# Altium integrated library ON Semi Transient Voltage Suppressors (TVS).IntLib: 730 symbols (part 10 of 17)
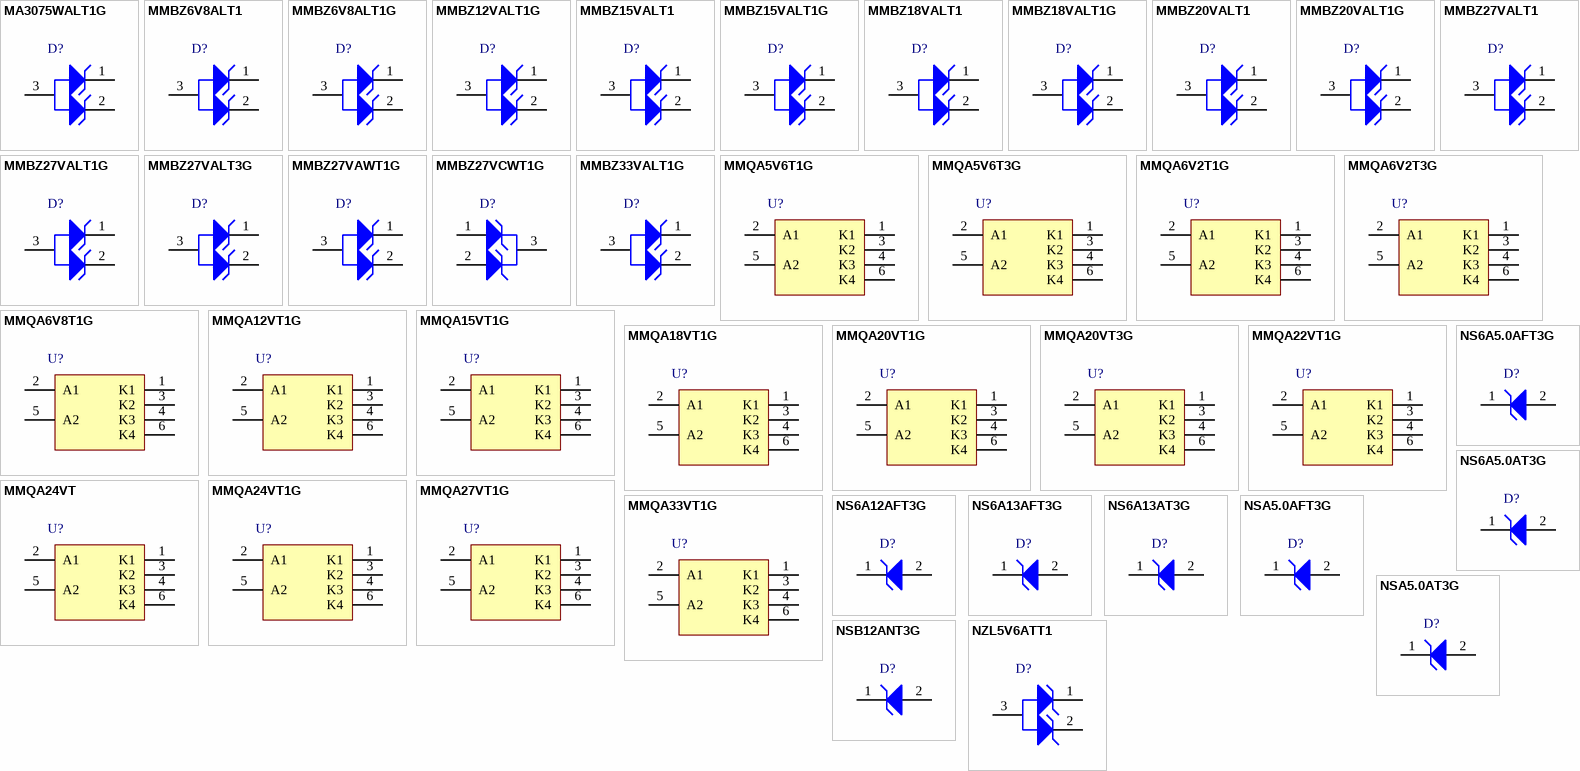
[diagram p27: symbols MA3075WALT1G to NZL5V6ATT1]

## NZL5V6ATT1
designator D?
Dual Common Anode Zener for ESD Protection, 3-Pin SC-75, Tape and Reel; Manufacturer: On Semiconductor; PartNumber: NZL5V6ATT1; Direction: Unidirectional; IR Max (uA): 1; V(BR) Typ (V): 5.6; DatasheetVersion: Rev. 3; PackageVersion: Rev. F, 07/2005; PackageReference: SC-75-3-463-01; PackageDescription: 3-Pin Small Outline Transistor, Body 1.6 x 0.8 mm, Pitch 0.5 mm; Supplier 1: Digi-Key; Supplier Part Number 1: NZL5V6ATT1OS-ND; Packing: Tape and Reel; Mounting Technology: Surface Mount; ComponentLink1Description: Manufacturer URL; ComponentLink1URL: http://www.onsemi.com/; ComponentLink2Description: Datasheet; ComponentLink2URL: http://www.onsemi.com/pub_link/Collateral/NZL5V6ATT1-D.PDF; ComponentLink3Description: Package Specification; ComponentLink3URL: http://www.onsemi.com/pub_link/Collateral/463-01.PDF
footprint ONSC-SC-75-3-463-01_V (SOT23, 3-Leads, Body 1.6x0.8mm, Pitch 0.5mm)
pins: 1 K1, 2 K2, 3 A

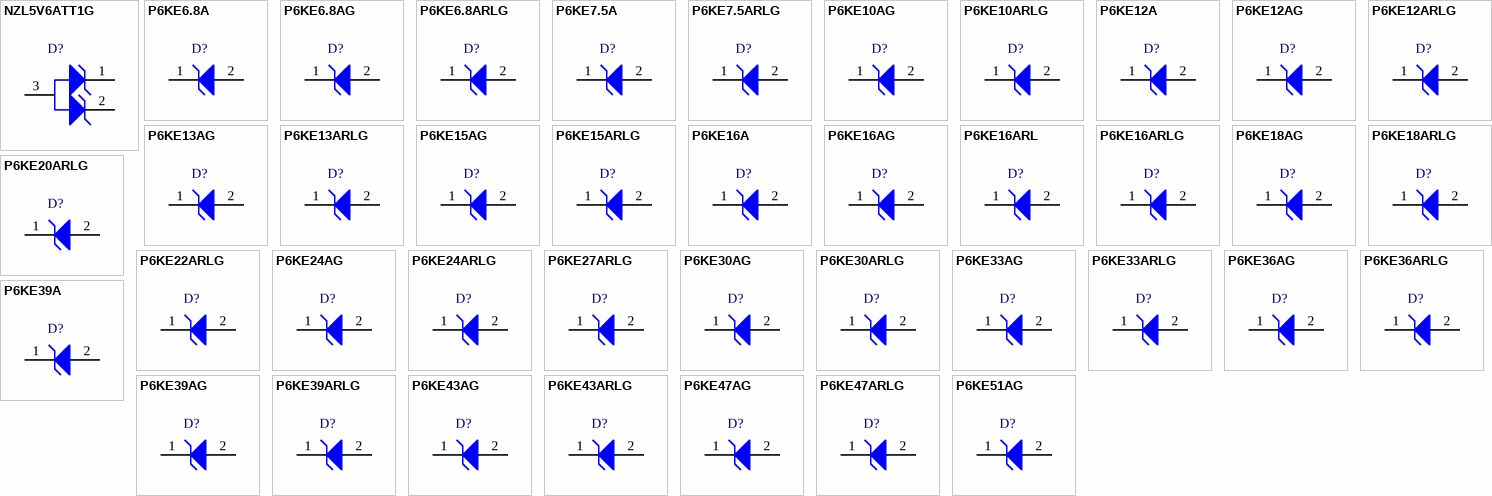
[diagram p10: symbols NZL5V6ATT1G to P6KE51AG]

## NZL5V6ATT1G
designator D?
Dual Common Anode Zener for ESD Protection, 3-Pin SC-75, Pb-Free, Tape and Reel; Manufacturer: On Semiconductor; PartNumber: NZL5V6ATT1G; Direction: Unidirectional; IR Max (uA): 1; V(BR) Typ (V): 5.6; DatasheetVersion: Rev. 3; PackageVersion: Rev. F, 07/2005; PackageReference: SC-75-3-463-01; PackageDescription: 3-Pin Small Outline Transistor, Body 1.6 x 0.8 mm, Pitch 0.5 mm; Supplier 1: Digi-Key; Supplier Part Number 1: NZL5V6ATT1GOSTR-ND; Supplier 2: Digi-Key; Supplier Part Number 2: NZL5V6ATT1GOSCT-ND; Supplier 3: Mouser; Supplier Part Number 3: 863-NZL5V6ATT1G; Packing: Tape and Reel; RoHS: Pb-Free; Mounting Technology: Surface Mount; ComponentLink1Description: Manufacturer URL; ComponentLink1URL: http://www.onsemi.com/; ComponentLink2Description: Datasheet; ComponentLink2URL: http://www.onsemi.com/pub_link/Collateral/NZL5V6ATT1-D.PDF; ComponentLink3Description: Package Specification; ComponentLink3URL: http://www.onsemi.com/pub_link/Collateral/463-01.PDF
footprint ONSC-SC-75-3-463-01_V (SOT23, 3-Leads, Body 1.6x0.8mm, Pitch 0.5mm)
pins: 1 K1, 2 K2, 3 A

## P6KE6.8A
designator D?
600 W Peak Power Transient Voltage Suppressor, 2-Pin Surmetic(TM) 40, Bulk Box; Manufacturer: On Semiconductor; PartNumber: P6KE6.8A; Direction: Unidirectional; IR Max (uA): 1000; PPK Max (W): 600; V(BR) Typ (V): 6.8; DatasheetVersion: Rev. 10; PackageVersion: Rev. O, 09/2005; PackageReference: SURMETIC40-2-017AA-01; PackageDescription: 2-Pin, Axial Lead, Diameter 3.49 mm; Supplier 1: Digi-Key; Supplier Part Number 1: P6KE6.8AOS-ND; Packing: Bulk Box; Mounting Technology: Through Hole; ComponentLink1Description: Manufacturer URL; ComponentLink1URL: http://www.onsemi.com/; ComponentLink2Description: Datasheet; ComponentLink2URL: http://www.onsemi.com/pub_link/Collateral/P6KE6.8A-D.PDF; ComponentLink3Description: Package Specification; ComponentLink3URL: http://www.onsemi.cn/pub_link/Collateral/017AA.PDF
footprint ONSC-SURMETIC40-2-017AA-01 (AXIAL, 2-Leads, Diameter 3.49mm)
pins: 1 K, 2 A

## P6KE6.8AG
designator D?
600 W Peak Power Transient Voltage Suppressor, 2-Pin Surmetic(TM) 40, Pb-Free, Bulk Box; Manufacturer: On Semiconductor; PartNumber: P6KE6.8AG; Direction: Unidirectional; IR Max (uA): 1000; PPK Max (W): 600; V(BR) Typ (V): 6.8; DatasheetVersion: Rev. 10; PackageVersion: Rev. O, 09/2005; PackageReference: SURMETIC40-2-017AA-01; PackageDescription: 2-Pin, Axial Lead, Diameter 3.49 mm; Supplier 1: Digi-Key; Supplier Part Number 1: P6KE6.8AGOS-ND; Supplier 2: Farnell; Supplier Part Number 2: 1147733; Supplier 3: Newark; Supplier Part Number 3: 42K2536; Supplier 4: Mouser; Supplier Part Number 4: 863-P6KE6.8AG; Packing: Bulk Box; RoHS: Pb-Free; Mounting Technology: Through Hole; ComponentLink1Description: Manufacturer URL; ComponentLink1URL: http://www.onsemi.com/; ComponentLink2Description: Datasheet; ComponentLink2URL: http://www.onsemi.com/pub_link/Collateral/P6KE6.8A-D.PDF; ComponentLink3Description: Package Specification; ComponentLink3URL: http://www.onsemi.cn/pub_link/Collateral/017AA.PDF
footprint ONSC-SURMETIC40-2-017AA-01 (AXIAL, 2-Leads, Diameter 3.49mm)
pins: 1 K, 2 A

## P6KE6.8ARLG
designator D?
600 W Peak Power Transient Voltage Suppressor, 2-Pin Surmetic(TM) 40, Pb-Free, Tape and Reel; Manufacturer: On Semiconductor; PartNumber: P6KE6.8ARLG; Direction: Unidirectional; IR Max (uA): 1000; PPK Max (W): 600; V(BR) Typ (V): 6.8; DatasheetVersion: Rev. 10; PackageVersion: Rev. O, 09/2005; PackageReference: SURMETIC40-2-017AA-01; PackageDescription: 2-Pin, Axial Lead, Diameter 3.49 mm; Supplier 1: Digi-Key; Supplier Part Number 1: P6KE6.8ARLGOSTR-ND; Supplier 2: Digi-Key; Supplier Part Number 2: P6KE6.8ARLGOSCT-ND; Supplier 3: Farnell; Supplier Part Number 3: 1887112; Supplier 4: Newark; Supplier Part Number 4: 09R9689; Supplier 5: Mouser; Supplier Part Number 5: 863-P6KE6.8ARLG; Packing: Tape and Reel; RoHS: Pb-Free; Mounting Technology: Through Hole; ComponentLink1Description: Manufacturer URL; ComponentLink1URL: http://www.onsemi.com/; ComponentLink2Description: Datasheet; ComponentLink2URL: http://www.onsemi.com/pub_link/Collateral/P6KE6.8A-D.PDF; ComponentLink3Description: Package Specification; ComponentLink3URL: http://www.onsemi.cn/pub_link/Collateral/017AA.PDF
footprint ONSC-SURMETIC40-2-017AA-01 (AXIAL, 2-Leads, Diameter 3.49mm)
pins: 1 K, 2 A

## P6KE7.5A
designator D?
600 W Peak Power Transient Voltage Suppressor, 2-Pin Surmetic(TM) 40, Bulk Box; Manufacturer: On Semiconductor; PartNumber: P6KE7.5A; Direction: Unidirectional; IR Max (uA): 500; PPK Max (W): 600; V(BR) Typ (V): 7.51; DatasheetVersion: Rev. 10; PackageVersion: Rev. O, 09/2005; PackageReference: SURMETIC40-2-017AA-01; PackageDescription: 2-Pin, Axial Lead, Diameter 3.49 mm; Packing: Bulk Box; Mounting Technology: Through Hole; ComponentLink1Description: Manufacturer URL; ComponentLink1URL: http://www.onsemi.com/; ComponentLink2Description: Datasheet; ComponentLink2URL: http://www.onsemi.com/pub_link/Collateral/P6KE6.8A-D.PDF; ComponentLink3Description: Package Specification; ComponentLink3URL: http://www.onsemi.cn/pub_link/Collateral/017AA.PDF
footprint ONSC-SURMETIC40-2-017AA-01 (AXIAL, 2-Leads, Diameter 3.49mm)
pins: 1 K, 2 A

## P6KE7.5ARLG
designator D?
600 W Peak Power Transient Voltage Suppressor, 2-Pin Surmetic(TM) 40, Pb-Free, Tape and Reel; Manufacturer: On Semiconductor; PartNumber: P6KE7.5ARLG; Direction: Unidirectional; IR Max (uA): 500; PPK Max (W): 600; V(BR) Typ (V): 7.51; DatasheetVersion: Rev. 10; PackageVersion: Rev. O, 09/2005; PackageReference: SURMETIC40-2-017AA-01; PackageDescription: 2-Pin, Axial Lead, Diameter 3.49 mm; Supplier 1: Digi-Key; Supplier Part Number 1: P6KE7.5ARLG-ND; Supplier 2: Mouser; Supplier Part Number 2: 863-P6KE7.5ARLG; Packing: Tape and Reel; RoHS: Pb-Free; Mounting Technology: Through Hole; ComponentLink1Description: Manufacturer URL; ComponentLink1URL: http://www.onsemi.com/; ComponentLink2Description: Datasheet; ComponentLink2URL: http://www.onsemi.com/pub_link/Collateral/P6KE6.8A-D.PDF; ComponentLink3Description: Package Specification; ComponentLink3URL: http://www.onsemi.cn/pub_link/Collateral/017AA.PDF
footprint ONSC-SURMETIC40-2-017AA-01 (AXIAL, 2-Leads, Diameter 3.49mm)
pins: 1 K, 2 A

## P6KE10AG
designator D?
600 W Peak Power Transient Voltage Suppressor, 2-Pin Surmetic(TM) 40, Pb-Free, Bulk Box; Manufacturer: On Semiconductor; PartNumber: P6KE10AG; Direction: Unidirectional; IR Max (uA): 10; PPK Max (W): 600; DatasheetVersion: Rev. 10; PackageVersion: Rev. O, 09/2005; PackageReference: SURMETIC40-2-017AA-01; PackageDescription: 2-Pin, Axial Lead, Diameter 3.49 mm; Supplier 1: Digi-Key; Supplier Part Number 1: P6KE10AGOS-ND; Supplier 2: Newark; Supplier Part Number 2: 42K2506; Supplier 3: Mouser; Supplier Part Number 3: 863-P6KE10AG; Packing: Bulk Box; RoHS: Pb-Free; V(BR) Typ (V): 10; Mounting Technology: Through Hole; ComponentLink1Description: Manufacturer URL; ComponentLink1URL: http://www.onsemi.com/; ComponentLink2Description: Datasheet; ComponentLink2URL: http://www.onsemi.com/pub_link/Collateral/P6KE6.8A-D.PDF; ComponentLink3Description: Package Specification; ComponentLink3URL: http://www.onsemi.cn/pub_link/Collateral/017AA.PDF
footprint ONSC-SURMETIC40-2-017AA-01 (AXIAL, 2-Leads, Diameter 3.49mm)
pins: 1 K, 2 A

## P6KE10ARLG
designator D?
600 W Peak Power Transient Voltage Suppressor, 2-Pin Surmetic(TM) 40, Pb-Free, Tape and Reel; Manufacturer: On Semiconductor; PartNumber: P6KE10ARLG; Direction: Unidirectional; IR Max (uA): 10; PPK Max (W): 600; DatasheetVersion: Rev. 10; PackageVersion: Rev. O, 09/2005; PackageReference: SURMETIC40-2-017AA-01; PackageDescription: 2-Pin, Axial Lead, Diameter 3.49 mm; Supplier 1: Digi-Key; Supplier Part Number 1: P6KE10ARLG-ND; Supplier 2: Newark; Supplier Part Number 2: 42K2507; Supplier 3: Mouser; Supplier Part Number 3: 863-P6KE10ARLG; Packing: Tape and Reel; RoHS: Pb-Free; V(BR) Typ (V): 10; Mounting Technology: Through Hole; ComponentLink1Description: Manufacturer URL; ComponentLink1URL: http://www.onsemi.com/; ComponentLink2Description: Datasheet; ComponentLink2URL: http://www.onsemi.com/pub_link/Collateral/P6KE6.8A-D.PDF; ComponentLink3Description: Package Specification; ComponentLink3URL: http://www.onsemi.cn/pub_link/Collateral/017AA.PDF
footprint ONSC-SURMETIC40-2-017AA-01 (AXIAL, 2-Leads, Diameter 3.49mm)
pins: 1 K, 2 A

## P6KE12A
designator D?
600 W Peak Power Transient Voltage Suppressor, 2-Pin Surmetic(TM) 40, Bulk Box; Manufacturer: On Semiconductor; PartNumber: P6KE12A; Direction: Unidirectional; IR Max (uA): 5; PPK Max (W): 600; V(BR) Typ (V): 12; DatasheetVersion: Rev. 10; PackageVersion: Rev. O, 09/2005; PackageReference: SURMETIC40-2-017AA-01; PackageDescription: 2-Pin, Axial Lead, Diameter 3.49 mm; Packing: Bulk Box; Mounting Technology: Through Hole; ComponentLink1Description: Manufacturer URL; ComponentLink1URL: http://www.onsemi.com/; ComponentLink2Description: Datasheet; ComponentLink2URL: http://www.onsemi.com/pub_link/Collateral/P6KE6.8A-D.PDF; ComponentLink3Description: Package Specification; ComponentLink3URL: http://www.onsemi.cn/pub_link/Collateral/017AA.PDF
footprint ONSC-SURMETIC40-2-017AA-01 (AXIAL, 2-Leads, Diameter 3.49mm)
pins: 1 K, 2 A

## P6KE12AG
designator D?
600 W Peak Power Transient Voltage Suppressor, 2-Pin Surmetic(TM) 40, Pb-Free, Bulk Box; Manufacturer: On Semiconductor; PartNumber: P6KE12AG; Direction: Unidirectional; IR Max (uA): 5; PPK Max (W): 600; V(BR) Typ (V): 12; DatasheetVersion: Rev. 10; PackageVersion: Rev. O, 09/2005; PackageReference: SURMETIC40-2-017AA-01; PackageDescription: 2-Pin, Axial Lead, Diameter 3.49 mm; Supplier 1: Digi-Key; Supplier Part Number 1: P6KE12AGOS-ND; Supplier 2: Newark; Supplier Part Number 2: 42K2512; Supplier 3: Mouser; Supplier Part Number 3: 863-P6KE12AG; Packing: Bulk Box; RoHS: Pb-Free; Mounting Technology: Through Hole; ComponentLink1Description: Manufacturer URL; ComponentLink1URL: http://www.onsemi.com/; ComponentLink2Description: Datasheet; ComponentLink2URL: http://www.onsemi.com/pub_link/Collateral/P6KE6.8A-D.PDF; ComponentLink3Description: Package Specification; ComponentLink3URL: http://www.onsemi.cn/pub_link/Collateral/017AA.PDF
footprint ONSC-SURMETIC40-2-017AA-01 (AXIAL, 2-Leads, Diameter 3.49mm)
pins: 1 K, 2 A

## P6KE12ARLG
designator D?
600 W Peak Power Transient Voltage Suppressor, 2-Pin Surmetic(TM) 40, Pb-Free, Tape and Reel; Manufacturer: On Semiconductor; PartNumber: P6KE12ARLG; Direction: Unidirectional; IR Max (uA): 5; PPK Max (W): 600; V(BR) Typ (V): 12; DatasheetVersion: Rev. 10; PackageVersion: Rev. O, 09/2005; PackageReference: SURMETIC40-2-017AA-01; PackageDescription: 2-Pin, Axial Lead, Diameter 3.49 mm; Supplier 1: Digi-Key; Supplier Part Number 1: P6KE12ARLG-ND; Supplier 2: Mouser; Supplier Part Number 2: 863-P6KE12ARLG; Packing: Tape and Reel; RoHS: Pb-Free; Mounting Technology: Through Hole; ComponentLink1Description: Manufacturer URL; ComponentLink1URL: http://www.onsemi.com/; ComponentLink2Description: Datasheet; ComponentLink2URL: http://www.onsemi.com/pub_link/Collateral/P6KE6.8A-D.PDF; ComponentLink3Description: Package Specification; ComponentLink3URL: http://www.onsemi.cn/pub_link/Collateral/017AA.PDF
footprint ONSC-SURMETIC40-2-017AA-01 (AXIAL, 2-Leads, Diameter 3.49mm)
pins: 1 K, 2 A

## P6KE13AG
designator D?
600 W Peak Power Transient Voltage Suppressor, 2-Pin Surmetic(TM) 40, Pb-Free, Bulk Box; Manufacturer: On Semiconductor; PartNumber: P6KE13AG; Direction: Unidirectional; IR Max (uA): 5; PPK Max (W): 600; V(BR) Typ (V): 13.05; DatasheetVersion: Rev. 10; PackageVersion: Rev. O, 09/2005; PackageReference: SURMETIC40-2-017AA-01; PackageDescription: 2-Pin, Axial Lead, Diameter 3.49 mm; Supplier 1: Digi-Key; Supplier Part Number 1: P6KE13AG-ND; Supplier 2: Mouser; Supplier Part Number 2: 863-P6KE13AG; Packing: Bulk Box; RoHS: Pb-Free; Mounting Technology: Through Hole; ComponentLink1Description: Manufacturer URL; ComponentLink1URL: http://www.onsemi.com/; ComponentLink2Description: Datasheet; ComponentLink2URL: http://www.onsemi.com/pub_link/Collateral/P6KE6.8A-D.PDF; ComponentLink3Description: Package Specification; ComponentLink3URL: http://www.onsemi.cn/pub_link/Collateral/017AA.PDF
footprint ONSC-SURMETIC40-2-017AA-01 (AXIAL, 2-Leads, Diameter 3.49mm)
pins: 1 K, 2 A

## P6KE13ARLG
designator D?
600 W Peak Power Transient Voltage Suppressor, 2-Pin Surmetic(TM) 40, Pb-Free, Tape and Reel; Manufacturer: On Semiconductor; PartNumber: P6KE13ARLG; Direction: Unidirectional; IR Max (uA): 5; PPK Max (W): 600; V(BR) Typ (V): 13.05; DatasheetVersion: Rev. 10; PackageVersion: Rev. O, 09/2005; PackageReference: SURMETIC40-2-017AA-01; PackageDescription: 2-Pin, Axial Lead, Diameter 3.49 mm; Supplier 1: Digi-Key; Supplier Part Number 1: P6KE13ARLG-ND; Supplier 2: Mouser; Supplier Part Number 2: 863-P6KE13ARLG; Packing: Tape and Reel; RoHS: Pb-Free; Mounting Technology: Through Hole; ComponentLink1Description: Manufacturer URL; ComponentLink1URL: http://www.onsemi.com/; ComponentLink2Description: Datasheet; ComponentLink2URL: http://www.onsemi.com/pub_link/Collateral/P6KE6.8A-D.PDF; ComponentLink3Description: Package Specification; ComponentLink3URL: http://www.onsemi.cn/pub_link/Collateral/017AA.PDF
footprint ONSC-SURMETIC40-2-017AA-01 (AXIAL, 2-Leads, Diameter 3.49mm)
pins: 1 K, 2 A

## P6KE15AG
designator D?
600 W Peak Power Transient Voltage Suppressor, 2-Pin Surmetic(TM) 40, Pb-Free, Bulk Box; Manufacturer: On Semiconductor; PartNumber: P6KE15AG; Direction: Unidirectional; IR Max (uA): 5; PPK Max (W): 600; V(BR) Typ (V): 15.05; DatasheetVersion: Rev. 10; PackageVersion: Rev. O, 09/2005; PackageReference: SURMETIC40-2-017AA-01; PackageDescription: 2-Pin, Axial Lead, Diameter 3.49 mm; Supplier 1: Digi-Key; Supplier Part Number 1: P6KE15AGOS-ND; Supplier 2: Newark; Supplier Part Number 2: 42K2515; Supplier 3: Mouser; Supplier Part Number 3: 863-P6KE15AG; Packing: Bulk Box; RoHS: Pb-Free; Mounting Technology: Through Hole; ComponentLink1Description: Manufacturer URL; ComponentLink1URL: http://www.onsemi.com/; ComponentLink2Description: Datasheet; ComponentLink2URL: http://www.onsemi.com/pub_link/Collateral/P6KE6.8A-D.PDF; ComponentLink3Description: Package Specification; ComponentLink3URL: http://www.onsemi.cn/pub_link/Collateral/017AA.PDF
footprint ONSC-SURMETIC40-2-017AA-01 (AXIAL, 2-Leads, Diameter 3.49mm)
pins: 1 K, 2 A

## P6KE15ARLG
designator D?
600 W Peak Power Transient Voltage Suppressor, 2-Pin Surmetic(TM) 40, Pb-Free, Tape and Reel; Manufacturer: On Semiconductor; PartNumber: P6KE15ARLG; Direction: Unidirectional; IR Max (uA): 5; PPK Max (W): 600; V(BR) Typ (V): 15.05; DatasheetVersion: Rev. 10; PackageVersion: Rev. O, 09/2005; PackageReference: SURMETIC40-2-017AA-01; PackageDescription: 2-Pin, Axial Lead, Diameter 3.49 mm; Supplier 1: Digi-Key; Supplier Part Number 1: P6KE15ARLG-ND; Supplier 2: Mouser; Supplier Part Number 2: 863-P6KE15ARLG; Packing: Tape and Reel; RoHS: Pb-Free; Mounting Technology: Through Hole; ComponentLink1Description: Manufacturer URL; ComponentLink1URL: http://www.onsemi.com/; ComponentLink2Description: Datasheet; ComponentLink2URL: http://www.onsemi.com/pub_link/Collateral/P6KE6.8A-D.PDF; ComponentLink3Description: Package Specification; ComponentLink3URL: http://www.onsemi.cn/pub_link/Collateral/017AA.PDF
footprint ONSC-SURMETIC40-2-017AA-01 (AXIAL, 2-Leads, Diameter 3.49mm)
pins: 1 K, 2 A

## P6KE16A
designator D?
600 W Peak Power Transient Voltage Suppressor, 2-Pin Surmetic(TM) 40, Bulk Box; Manufacturer: On Semiconductor; PartNumber: P6KE16A; Direction: Unidirectional; IR Max (uA): 5; PPK Max (W): 600; V(BR) Typ (V): 16; DatasheetVersion: Rev. 10; PackageVersion: Rev. O, 09/2005; PackageReference: SURMETIC40-2-017AA-01; PackageDescription: 2-Pin, Axial Lead, Diameter 3.49 mm; Supplier 1: Digi-Key; Supplier Part Number 1: P6KE16AOS-ND; Packing: Bulk Box; Mounting Technology: Through Hole; ComponentLink1Description: Manufacturer URL; ComponentLink1URL: http://www.onsemi.com/; ComponentLink2Description: Datasheet; ComponentLink2URL: http://www.onsemi.com/pub_link/Collateral/P6KE6.8A-D.PDF; ComponentLink3Description: Package Specification; ComponentLink3URL: http://www.onsemi.cn/pub_link/Collateral/017AA.PDF
footprint ONSC-SURMETIC40-2-017AA-01 (AXIAL, 2-Leads, Diameter 3.49mm)
pins: 1 K, 2 A

## P6KE16AG
designator D?
600 W Peak Power Transient Voltage Suppressor, 2-Pin Surmetic(TM) 40, Pb-Free, Bulk Box; Manufacturer: On Semiconductor; PartNumber: P6KE16AG; Direction: Unidirectional; IR Max (uA): 5; PPK Max (W): 600; V(BR) Typ (V): 16; DatasheetVersion: Rev. 10; PackageVersion: Rev. O, 09/2005; PackageReference: SURMETIC40-2-017AA-01; PackageDescription: 2-Pin, Axial Lead, Diameter 3.49 mm; Supplier 1: Digi-Key; Supplier Part Number 1: P6KE16AG-ND; Supplier 2: Mouser; Supplier Part Number 2: 863-P6KE16AG; Packing: Bulk Box; RoHS: Pb-Free; Mounting Technology: Through Hole; ComponentLink1Description: Manufacturer URL; ComponentLink1URL: http://www.onsemi.com/; ComponentLink2Description: Datasheet; ComponentLink2URL: http://www.onsemi.com/pub_link/Collateral/P6KE6.8A-D.PDF; ComponentLink3Description: Package Specification; ComponentLink3URL: http://www.onsemi.cn/pub_link/Collateral/017AA.PDF
footprint ONSC-SURMETIC40-2-017AA-01 (AXIAL, 2-Leads, Diameter 3.49mm)
pins: 1 K, 2 A

## P6KE16ARL
designator D?
600 W Peak Power Transient Voltage Suppressor, 2-Pin Surmetic(TM) 40, Tape and Reel; Manufacturer: On Semiconductor; PartNumber: P6KE16ARL; Direction: Unidirectional; IR Max (uA): 5; PPK Max (W): 600; V(BR) Typ (V): 16; DatasheetVersion: Rev. 10; PackageVersion: Rev. O, 09/2005; PackageReference: SURMETIC40-2-017AA-01; PackageDescription: 2-Pin, Axial Lead, Diameter 3.49 mm; Supplier 1: Mouser; Supplier Part Number 1: 863-P6KE16ARL; Packing: Tape and Reel; Mounting Technology: Through Hole; ComponentLink1Description: Manufacturer URL; ComponentLink1URL: http://www.onsemi.com/; ComponentLink2Description: Datasheet; ComponentLink2URL: http://www.onsemi.com/pub_link/Collateral/P6KE6.8A-D.PDF; ComponentLink3Description: Package Specification; ComponentLink3URL: http://www.onsemi.cn/pub_link/Collateral/017AA.PDF
footprint ONSC-SURMETIC40-2-017AA-01 (AXIAL, 2-Leads, Diameter 3.49mm)
pins: 1 K, 2 A

## P6KE16ARLG
designator D?
600 W Peak Power Transient Voltage Suppressor, 2-Pin Surmetic(TM) 40, Pb-Free, Tape and Reel; Manufacturer: On Semiconductor; PartNumber: P6KE16ARLG; Direction: Unidirectional; IR Max (uA): 5; PPK Max (W): 600; V(BR) Typ (V): 16; DatasheetVersion: Rev. 10; PackageVersion: Rev. O, 09/2005; PackageReference: SURMETIC40-2-017AA-01; PackageDescription: 2-Pin, Axial Lead, Diameter 3.49 mm; Supplier 1: Digi-Key; Supplier Part Number 1: P6KE16ARLGOSTR-ND; Supplier 2: Digi-Key; Supplier Part Number 2: P6KE16ARLGOSCT-ND; Supplier 3: Newark; Supplier Part Number 3: 61K1495; Supplier 4: Mouser; Supplier Part Number 4: 863-P6KE16ARLG; Packing: Tape and Reel; RoHS: Pb-Free; Mounting Technology: Through Hole; ComponentLink1Description: Manufacturer URL; ComponentLink1URL: http://www.onsemi.com/; ComponentLink2Description: Datasheet; ComponentLink2URL: http://www.onsemi.com/pub_link/Collateral/P6KE6.8A-D.PDF; ComponentLink3Description: Package Specification; ComponentLink3URL: http://www.onsemi.cn/pub_link/Collateral/017AA.PDF
footprint ONSC-SURMETIC40-2-017AA-01 (AXIAL, 2-Leads, Diameter 3.49mm)
pins: 1 K, 2 A

## P6KE18AG
designator D?
600 W Peak Power Transient Voltage Suppressor, 2-Pin Surmetic(TM) 40, Pb-Free, Bulk Box; Manufacturer: On Semiconductor; PartNumber: P6KE18AG; Direction: Unidirectional; IR Max (uA): 5; PPK Max (W): 600; V(BR) Typ (V): 18; DatasheetVersion: Rev. 10; PackageVersion: Rev. O, 09/2005; PackageReference: SURMETIC40-2-017AA-01; PackageDescription: 2-Pin, Axial Lead, Diameter 3.49 mm; Supplier 1: Digi-Key; Supplier Part Number 1: P6KE18AGOS-ND; Supplier 2: Newark; Supplier Part Number 2: 42K2519; Supplier 3: Mouser; Supplier Part Number 3: 863-P6KE18AG; Packing: Bulk Box; RoHS: Pb-Free; Mounting Technology: Through Hole; ComponentLink1Description: Manufacturer URL; ComponentLink1URL: http://www.onsemi.com/; ComponentLink2Description: Datasheet; ComponentLink2URL: http://www.onsemi.com/pub_link/Collateral/P6KE6.8A-D.PDF; ComponentLink3Description: Package Specification; ComponentLink3URL: http://www.onsemi.cn/pub_link/Collateral/017AA.PDF
footprint ONSC-SURMETIC40-2-017AA-01 (AXIAL, 2-Leads, Diameter 3.49mm)
pins: 1 K, 2 A

## P6KE18ARLG
designator D?
600 W Peak Power Transient Voltage Suppressor, 2-Pin Surmetic(TM) 40, Pb-Free, Tape and Reel; Manufacturer: On Semiconductor; PartNumber: P6KE18ARLG; Direction: Unidirectional; IR Max (uA): 5; PPK Max (W): 600; V(BR) Typ (V): 18; DatasheetVersion: Rev. 10; PackageVersion: Rev. O, 09/2005; PackageReference: SURMETIC40-2-017AA-01; PackageDescription: 2-Pin, Axial Lead, Diameter 3.49 mm; Supplier 1: Digi-Key; Supplier Part Number 1: P6KE18ARLGOSTR-ND; Supplier 2: Digi-Key; Supplier Part Number 2: P6KE18ARLGOSCT-ND; Supplier 3: Farnell; Supplier Part Number 3: 1861225; Supplier 4: Newark; Supplier Part Number 4: 09R9682; Supplier 5: Mouser; Supplier Part Number 5: 863-P6KE18ARLG; Packing: Tape and Reel; RoHS: Pb-Free; Mounting Technology: Through Hole; ComponentLink1Description: Manufacturer URL; ComponentLink1URL: http://www.onsemi.com/; ComponentLink2Description: Datasheet; ComponentLink2URL: http://www.onsemi.com/pub_link/Collateral/P6KE6.8A-D.PDF; ComponentLink3Description: Package Specification; ComponentLink3URL: http://www.onsemi.cn/pub_link/Collateral/017AA.PDF
footprint ONSC-SURMETIC40-2-017AA-01 (AXIAL, 2-Leads, Diameter 3.49mm)
pins: 1 K, 2 A

## P6KE20ARLG
designator D?
600 W Peak Power Transient Voltage Suppressor, 2-Pin Surmetic(TM) 40, Pb-Free, Tape and Reel; Manufacturer: On Semiconductor; PartNumber: P6KE20ARLG; Direction: Unidirectional; IR Max (uA): 5; PPK Max (W): 600; V(BR) Typ (V): 20; DatasheetVersion: Rev. 10; PackageVersion: Rev. O, 09/2005; PackageReference: SURMETIC40-2-017AA-01; PackageDescription: 2-Pin, Axial Lead, Diameter 3.49 mm; Supplier 1: Digi-Key; Supplier Part Number 1: P6KE20ARLG-ND; Supplier 2: Newark; Supplier Part Number 2: 61K1497; Supplier 3: Mouser; Supplier Part Number 3: 863-P6KE20ARLG; Packing: Tape and Reel; RoHS: Pb-Free; Mounting Technology: Through Hole; ComponentLink1Description: Manufacturer URL; ComponentLink1URL: http://www.onsemi.com/; ComponentLink2Description: Datasheet; ComponentLink2URL: http://www.onsemi.com/pub_link/Collateral/P6KE6.8A-D.PDF; ComponentLink3Description: Package Specification; ComponentLink3URL: http://www.onsemi.cn/pub_link/Collateral/017AA.PDF
footprint ONSC-SURMETIC40-2-017AA-01 (AXIAL, 2-Leads, Diameter 3.49mm)
pins: 1 K, 2 A

## P6KE22ARLG
designator D?
600 W Peak Power Transient Voltage Suppressor, 2-Pin Surmetic(TM) 40, Pb-Free, Tape and Reel; Manufacturer: On Semiconductor; PartNumber: P6KE22ARLG; Direction: Unidirectional; IR Max (uA): 5; PPK Max (W): 600; V(BR) Typ (V): 22; DatasheetVersion: Rev. 10; PackageVersion: Rev. O, 09/2005; PackageReference: SURMETIC40-2-017AA-01; PackageDescription: 2-Pin, Axial Lead, Diameter 3.49 mm; Supplier 1: Digi-Key; Supplier Part Number 1: P6KE22ARLG-ND; Supplier 2: Mouser; Supplier Part Number 2: 863-P6KE22ARLG; Packing: Tape and Reel; RoHS: Pb-Free; Mounting Technology: Through Hole; ComponentLink1Description: Manufacturer URL; ComponentLink1URL: http://www.onsemi.com/; ComponentLink2Description: Datasheet; ComponentLink2URL: http://www.onsemi.com/pub_link/Collateral/P6KE6.8A-D.PDF; ComponentLink3Description: Package Specification; ComponentLink3URL: http://www.onsemi.cn/pub_link/Collateral/017AA.PDF
footprint ONSC-SURMETIC40-2-017AA-01 (AXIAL, 2-Leads, Diameter 3.49mm)
pins: 1 K, 2 A

## P6KE24AG
designator D?
600 W Peak Power Transient Voltage Suppressor, 2-Pin Surmetic(TM) 40, Pb-Free, Bulk Box; Manufacturer: On Semiconductor; PartNumber: P6KE24AG; Direction: Unidirectional; IR Max (uA): 5; PPK Max (W): 600; V(BR) Typ (V): 24; DatasheetVersion: Rev. 10; PackageVersion: Rev. O, 09/2005; PackageReference: SURMETIC40-2-017AA-01; PackageDescription: 2-Pin, Axial Lead, Diameter 3.49 mm; Supplier 1: Digi-Key; Supplier Part Number 1: P6KE24AGOS-ND; Supplier 2: Farnell; Supplier Part Number 2: 1147727; Supplier 3: Newark; Supplier Part Number 3: 42K2526; Supplier 4: Mouser; Supplier Part Number 4: 863-P6KE24AG; Packing: Bulk Box; RoHS: Pb-Free; Mounting Technology: Through Hole; ComponentLink1Description: Manufacturer URL; ComponentLink1URL: http://www.onsemi.com/; ComponentLink2Description: Datasheet; ComponentLink2URL: http://www.onsemi.com/pub_link/Collateral/P6KE6.8A-D.PDF; ComponentLink3Description: Package Specification; ComponentLink3URL: http://www.onsemi.cn/pub_link/Collateral/017AA.PDF
footprint ONSC-SURMETIC40-2-017AA-01 (AXIAL, 2-Leads, Diameter 3.49mm)
pins: 1 K, 2 A

## P6KE24ARLG
designator D?
600 W Peak Power Transient Voltage Suppressor, 2-Pin Surmetic(TM) 40, Pb-Free, Tape and Reel; Manufacturer: On Semiconductor; PartNumber: P6KE24ARLG; Direction: Unidirectional; IR Max (uA): 5; PPK Max (W): 600; V(BR) Typ (V): 24; DatasheetVersion: Rev. 10; PackageVersion: Rev. O, 09/2005; PackageReference: SURMETIC40-2-017AA-01; PackageDescription: 2-Pin, Axial Lead, Diameter 3.49 mm; Supplier 1: Digi-Key; Supplier Part Number 1: P6KE24ARLG-ND; Supplier 2: Mouser; Supplier Part Number 2: 863-P6KE24ARLG; Packing: Tape and Reel; RoHS: Pb-Free; Mounting Technology: Through Hole; ComponentLink1Description: Manufacturer URL; ComponentLink1URL: http://www.onsemi.com/; ComponentLink2Description: Datasheet; ComponentLink2URL: http://www.onsemi.com/pub_link/Collateral/P6KE6.8A-D.PDF; ComponentLink3Description: Package Specification; ComponentLink3URL: http://www.onsemi.cn/pub_link/Collateral/017AA.PDF
footprint ONSC-SURMETIC40-2-017AA-01 (AXIAL, 2-Leads, Diameter 3.49mm)
pins: 1 K, 2 A

## P6KE27ARLG
designator D?
600 W Peak Power Transient Voltage Suppressor, 2-Pin Surmetic(TM) 40, Pb-Free, Tape and Reel; Manufacturer: On Semiconductor; PartNumber: P6KE27ARLG; Direction: Unidirectional; IR Max (uA): 5; PPK Max (W): 600; V(BR) Typ (V): 27.05; DatasheetVersion: Rev. 10; PackageVersion: Rev. O, 09/2005; PackageReference: SURMETIC40-2-017AA-01; PackageDescription: 2-Pin, Axial Lead, Diameter 3.49 mm; Supplier 1: Digi-Key; Supplier Part Number 1: P6KE27ARLG-ND; Supplier 2: Mouser; Supplier Part Number 2: 863-P6KE27ARLG; Packing: Tape and Reel; RoHS: Pb-Free; Mounting Technology: Through Hole; ComponentLink1Description: Manufacturer URL; ComponentLink1URL: http://www.onsemi.com/; ComponentLink2Description: Datasheet; ComponentLink2URL: http://www.onsemi.com/pub_link/Collateral/P6KE6.8A-D.PDF; ComponentLink3Description: Package Specification; ComponentLink3URL: http://www.onsemi.cn/pub_link/Collateral/017AA.PDF
footprint ONSC-SURMETIC40-2-017AA-01 (AXIAL, 2-Leads, Diameter 3.49mm)
pins: 1 K, 2 A

## P6KE30AG
designator D?
600 W Peak Power Transient Voltage Suppressor, 2-Pin Surmetic(TM) 40, Pb-Free, Bulk Box; Manufacturer: On Semiconductor; PartNumber: P6KE30AG; Direction: Unidirectional; IR Max (uA): 5; PPK Max (W): 600; V(BR) Typ (V): 30; DatasheetVersion: Rev. 10; PackageVersion: Rev. O, 09/2005; PackageReference: SURMETIC40-2-017AA-01; PackageDescription: 2-Pin, Axial Lead, Diameter 3.49 mm; Supplier 1: Digi-Key; Supplier Part Number 1: P6KE30AGOS-ND; Supplier 2: Newark; Supplier Part Number 2: 42K2528; Supplier 3: Mouser; Supplier Part Number 3: 863-P6KE30AG; Packing: Bulk Box; RoHS: Pb-Free; Mounting Technology: Through Hole; ComponentLink1Description: Manufacturer URL; ComponentLink1URL: http://www.onsemi.com/; ComponentLink2Description: Datasheet; ComponentLink2URL: http://www.onsemi.com/pub_link/Collateral/P6KE6.8A-D.PDF; ComponentLink3Description: Package Specification; ComponentLink3URL: http://www.onsemi.cn/pub_link/Collateral/017AA.PDF
footprint ONSC-SURMETIC40-2-017AA-01 (AXIAL, 2-Leads, Diameter 3.49mm)
pins: 1 K, 2 A

## P6KE30ARLG
designator D?
600 W Peak Power Transient Voltage Suppressor, 2-Pin Surmetic(TM) 40, Pb-Free, Tape and Reel; Manufacturer: On Semiconductor; PartNumber: P6KE30ARLG; Direction: Unidirectional; IR Max (uA): 5; PPK Max (W): 600; V(BR) Typ (V): 30; DatasheetVersion: Rev. 10; PackageVersion: Rev. O, 09/2005; PackageReference: SURMETIC40-2-017AA-01; PackageDescription: 2-Pin, Axial Lead, Diameter 3.49 mm; Supplier 1: Digi-Key; Supplier Part Number 1: P6KE30ARLGOSTR-ND; Supplier 2: Digi-Key; Supplier Part Number 2: P6KE30ARLGOSCT-ND; Supplier 3: Newark; Supplier Part Number 3: 61K1500; Supplier 4: Mouser; Supplier Part Number 4: 863-P6KE30ARLG; Packing: Tape and Reel; RoHS: Pb-Free; Mounting Technology: Through Hole; ComponentLink1Description: Manufacturer URL; ComponentLink1URL: http://www.onsemi.com/; ComponentLink2Description: Datasheet; ComponentLink2URL: http://www.onsemi.com/pub_link/Collateral/P6KE6.8A-D.PDF; ComponentLink3Description: Package Specification; ComponentLink3URL: http://www.onsemi.cn/pub_link/Collateral/017AA.PDF
footprint ONSC-SURMETIC40-2-017AA-01 (AXIAL, 2-Leads, Diameter 3.49mm)
pins: 1 K, 2 A

## P6KE33AG
designator D?
600 W Peak Power Transient Voltage Suppressor, 2-Pin Surmetic(TM) 40, Pb-Free, Bulk Box; Manufacturer: On Semiconductor; PartNumber: P6KE33AG; Direction: Unidirectional; IR Max (uA): 5; PPK Max (W): 600; V(BR) Typ (V): 33.05; DatasheetVersion: Rev. 10; PackageVersion: Rev. O, 09/2005; PackageReference: SURMETIC40-2-017AA-01; PackageDescription: 2-Pin, Axial Lead, Diameter 3.49 mm; Supplier 1: Digi-Key; Supplier Part Number 1: P6KE33AGOS-ND; Supplier 2: Farnell; Supplier Part Number 2: 1126275; Supplier 3: Newark; Supplier Part Number 3: 42K2529; Supplier 4: Mouser; Supplier Part Number 4: 863-P6KE33AG; Packing: Bulk Box; RoHS: Pb-Free; Mounting Technology: Through Hole; ComponentLink1Description: Manufacturer URL; ComponentLink1URL: http://www.onsemi.com/; ComponentLink2Description: Datasheet; ComponentLink2URL: http://www.onsemi.com/pub_link/Collateral/P6KE6.8A-D.PDF; ComponentLink3Description: Package Specification; ComponentLink3URL: http://www.onsemi.cn/pub_link/Collateral/017AA.PDF
footprint ONSC-SURMETIC40-2-017AA-01 (AXIAL, 2-Leads, Diameter 3.49mm)
pins: 1 K, 2 A

## P6KE33ARLG
designator D?
600 W Peak Power Transient Voltage Suppressor, 2-Pin Surmetic(TM) 40, Pb-Free, Tape and Reel; Manufacturer: On Semiconductor; PartNumber: P6KE33ARLG; Direction: Unidirectional; IR Max (uA): 5; PPK Max (W): 600; V(BR) Typ (V): 33.05; DatasheetVersion: Rev. 10; PackageVersion: Rev. O, 09/2005; PackageReference: SURMETIC40-2-017AA-01; PackageDescription: 2-Pin, Axial Lead, Diameter 3.49 mm; Supplier 1: Digi-Key; Supplier Part Number 1: P6KE33ARLGOSTR-ND; Supplier 2: Digi-Key; Supplier Part Number 2: P6KE33ARLGOSCT-ND; Supplier 3: Mouser; Supplier Part Number 3: 863-P6KE33ARLG; Packing: Tape and Reel; RoHS: Pb-Free; Mounting Technology: Through Hole; ComponentLink1Description: Manufacturer URL; ComponentLink1URL: http://www.onsemi.com/; ComponentLink2Description: Datasheet; ComponentLink2URL: http://www.onsemi.com/pub_link/Collateral/P6KE6.8A-D.PDF; ComponentLink3Description: Package Specification; ComponentLink3URL: http://www.onsemi.cn/pub_link/Collateral/017AA.PDF
footprint ONSC-SURMETIC40-2-017AA-01 (AXIAL, 2-Leads, Diameter 3.49mm)
pins: 1 K, 2 A

## P6KE36AG
designator D?
600 W Peak Power Transient Voltage Suppressor, 2-Pin Surmetic(TM) 40, Pb-Free, Bulk Box; Manufacturer: On Semiconductor; PartNumber: P6KE36AG; Direction: Unidirectional; IR Max (uA): 5; PPK Max (W): 600; V(BR) Typ (V): 36; DatasheetVersion: Rev. 10; PackageVersion: Rev. O, 09/2005; PackageReference: SURMETIC40-2-017AA-01; PackageDescription: 2-Pin, Axial Lead, Diameter 3.49 mm; Supplier 1: Digi-Key; Supplier Part Number 1: P6KE36AGOS-ND; Supplier 2: Newark; Supplier Part Number 2: 42K2530; Supplier 3: Mouser; Supplier Part Number 3: 863-P6KE36AG; Packing: Bulk Box; RoHS: Pb-Free; Mounting Technology: Through Hole; ComponentLink1Description: Manufacturer URL; ComponentLink1URL: http://www.onsemi.com/; ComponentLink2Description: Datasheet; ComponentLink2URL: http://www.onsemi.com/pub_link/Collateral/P6KE6.8A-D.PDF; ComponentLink3Description: Package Specification; ComponentLink3URL: http://www.onsemi.cn/pub_link/Collateral/017AA.PDF
footprint ONSC-SURMETIC40-2-017AA-01 (AXIAL, 2-Leads, Diameter 3.49mm)
pins: 1 K, 2 A

## P6KE36ARLG
designator D?
600 W Peak Power Transient Voltage Suppressor, 2-Pin Surmetic(TM) 40, Pb-Free, Tape and Reel; Manufacturer: On Semiconductor; PartNumber: P6KE36ARLG; Direction: Unidirectional; IR Max (uA): 5; PPK Max (W): 600; V(BR) Typ (V): 36; DatasheetVersion: Rev. 10; PackageVersion: Rev. O, 09/2005; PackageReference: SURMETIC40-2-017AA-01; PackageDescription: 2-Pin, Axial Lead, Diameter 3.49 mm; Supplier 1: Digi-Key; Supplier Part Number 1: P6KE36ARLGOS-ND; Supplier 2: Mouser; Supplier Part Number 2: 863-P6KE36ARLG; Packing: Tape and Reel; RoHS: Pb-Free; Mounting Technology: Through Hole; ComponentLink1Description: Manufacturer URL; ComponentLink1URL: http://www.onsemi.com/; ComponentLink2Description: Datasheet; ComponentLink2URL: http://www.onsemi.com/pub_link/Collateral/P6KE6.8A-D.PDF; ComponentLink3Description: Package Specification; ComponentLink3URL: http://www.onsemi.cn/pub_link/Collateral/017AA.PDF
footprint ONSC-SURMETIC40-2-017AA-01 (AXIAL, 2-Leads, Diameter 3.49mm)
pins: 1 K, 2 A

## P6KE39A
designator D?
600 W Peak Power Transient Voltage Suppressor, 2-Pin Surmetic(TM) 40, Bulk Box; Manufacturer: On Semiconductor; PartNumber: P6KE39A; Direction: Unidirectional; IR Max (uA): 5; PPK Max (W): 600; V(BR) Typ (V): 39.05; DatasheetVersion: Rev. 10; PackageVersion: Rev. O, 09/2005; PackageReference: SURMETIC40-2-017AA-01; PackageDescription: 2-Pin, Axial Lead, Diameter 3.49 mm; Supplier 1: Digi-Key; Supplier Part Number 1: P6KE39AOS-ND; Packing: Bulk Box; Mounting Technology: Through Hole; ComponentLink1Description: Manufacturer URL; ComponentLink1URL: http://www.onsemi.com/; ComponentLink2Description: Datasheet; ComponentLink2URL: http://www.onsemi.com/pub_link/Collateral/P6KE6.8A-D.PDF; ComponentLink3Description: Package Specification; ComponentLink3URL: http://www.onsemi.cn/pub_link/Collateral/017AA.PDF
footprint ONSC-SURMETIC40-2-017AA-01 (AXIAL, 2-Leads, Diameter 3.49mm)
pins: 1 K, 2 A

## P6KE39AG
designator D?
600 W Peak Power Transient Voltage Suppressor, 2-Pin Surmetic(TM) 40, Pb-Free, Bulk Box; Manufacturer: On Semiconductor; PartNumber: P6KE39AG; Direction: Unidirectional; IR Max (uA): 5; PPK Max (W): 600; V(BR) Typ (V): 39.05; DatasheetVersion: Rev. 10; PackageVersion: Rev. O, 09/2005; PackageReference: SURMETIC40-2-017AA-01; PackageDescription: 2-Pin, Axial Lead, Diameter 3.49 mm; Supplier 1: Digi-Key; Supplier Part Number 1: P6KE39AGOS-ND; Supplier 2: Farnell; Supplier Part Number 2: 2317487; Supplier 3: Newark; Supplier Part Number 3: 42K2531; Supplier 4: Mouser; Supplier Part Number 4: 863-P6KE39AG; Packing: Bulk Box; RoHS: Pb-Free; Mounting Technology: Through Hole; ComponentLink1Description: Manufacturer URL; ComponentLink1URL: http://www.onsemi.com/; ComponentLink2Description: Datasheet; ComponentLink2URL: http://www.onsemi.com/pub_link/Collateral/P6KE6.8A-D.PDF; ComponentLink3Description: Package Specification; ComponentLink3URL: http://www.onsemi.cn/pub_link/Collateral/017AA.PDF
footprint ONSC-SURMETIC40-2-017AA-01 (AXIAL, 2-Leads, Diameter 3.49mm)
pins: 1 K, 2 A

## P6KE39ARLG
designator D?
600 W Peak Power Transient Voltage Suppressor, 2-Pin Surmetic(TM) 40, Pb-Free, Tape and Reel; Manufacturer: On Semiconductor; PartNumber: P6KE39ARLG; Direction: Unidirectional; IR Max (uA): 5; PPK Max (W): 600; V(BR) Typ (V): 39.05; DatasheetVersion: Rev. 10; PackageVersion: Rev. O, 09/2005; PackageReference: SURMETIC40-2-017AA-01; PackageDescription: 2-Pin, Axial Lead, Diameter 3.49 mm; Supplier 1: Digi-Key; Supplier Part Number 1: P6KE39ARLG-ND; Supplier 2: Newark; Supplier Part Number 2: 61K1503; Supplier 3: Mouser; Supplier Part Number 3: 863-P6KE39ARLG; Packing: Tape and Reel; RoHS: Pb-Free; Mounting Technology: Through Hole; ComponentLink1Description: Manufacturer URL; ComponentLink1URL: http://www.onsemi.com/; ComponentLink2Description: Datasheet; ComponentLink2URL: http://www.onsemi.com/pub_link/Collateral/P6KE6.8A-D.PDF; ComponentLink3Description: Package Specification; ComponentLink3URL: http://www.onsemi.cn/pub_link/Collateral/017AA.PDF
footprint ONSC-SURMETIC40-2-017AA-01 (AXIAL, 2-Leads, Diameter 3.49mm)
pins: 1 K, 2 A

## P6KE43AG
designator D?
600 W Peak Power Transient Voltage Suppressor, 2-Pin Surmetic(TM) 40, Pb-Free, Bulk Box; Manufacturer: On Semiconductor; PartNumber: P6KE43AG; Direction: Unidirectional; IR Max (uA): 5; PPK Max (W): 600; V(BR) Typ (V): 43.05; DatasheetVersion: Rev. 10; PackageVersion: Rev. O, 09/2005; PackageReference: SURMETIC40-2-017AA-01; PackageDescription: 2-Pin, Axial Lead, Diameter 3.49 mm; Supplier 1: Digi-Key; Supplier Part Number 1: P6KE43AGOS-ND; Supplier 2: Newark; Supplier Part Number 2: 42K2532; Supplier 3: Mouser; Supplier Part Number 3: 863-P6KE43AG; Packing: Bulk Box; RoHS: Pb-Free; Mounting Technology: Through Hole; ComponentLink1Description: Manufacturer URL; ComponentLink1URL: http://www.onsemi.com/; ComponentLink2Description: Datasheet; ComponentLink2URL: http://www.onsemi.com/pub_link/Collateral/P6KE6.8A-D.PDF; ComponentLink3Description: Package Specification; ComponentLink3URL: http://www.onsemi.cn/pub_link/Collateral/017AA.PDF
footprint ONSC-SURMETIC40-2-017AA-01 (AXIAL, 2-Leads, Diameter 3.49mm)
pins: 1 K, 2 A

## P6KE43ARLG
designator D?
600 W Peak Power Transient Voltage Suppressor, 2-Pin Surmetic(TM) 40, Pb-Free, Tape and Reel; Manufacturer: On Semiconductor; PartNumber: P6KE43ARLG; Direction: Unidirectional; IR Max (uA): 5; PPK Max (W): 600; V(BR) Typ (V): 43.05; DatasheetVersion: Rev. 10; PackageVersion: Rev. O, 09/2005; PackageReference: SURMETIC40-2-017AA-01; PackageDescription: 2-Pin, Axial Lead, Diameter 3.49 mm; Supplier 1: Digi-Key; Supplier Part Number 1: P6KE43ARLG-ND; Supplier 2: Newark; Supplier Part Number 2: 61K1504; Supplier 3: Mouser; Supplier Part Number 3: 863-P6KE43ARLG; Packing: Tape and Reel; RoHS: Pb-Free; Mounting Technology: Through Hole; ComponentLink1Description: Manufacturer URL; ComponentLink1URL: http://www.onsemi.com/; ComponentLink2Description: Datasheet; ComponentLink2URL: http://www.onsemi.com/pub_link/Collateral/P6KE6.8A-D.PDF; ComponentLink3Description: Package Specification; ComponentLink3URL: http://www.onsemi.cn/pub_link/Collateral/017AA.PDF
footprint ONSC-SURMETIC40-2-017AA-01 (AXIAL, 2-Leads, Diameter 3.49mm)
pins: 1 K, 2 A

## P6KE47AG
designator D?
600 W Peak Power Transient Voltage Suppressor, 2-Pin Surmetic(TM) 40, Pb-Free, Bulk Box; Manufacturer: On Semiconductor; PartNumber: P6KE47AG; Direction: Unidirectional; IR Max (uA): 5; PPK Max (W): 600; V(BR) Typ (V): 47.05; DatasheetVersion: Rev. 10; PackageVersion: Rev. O, 09/2005; PackageReference: SURMETIC40-2-017AA-01; PackageDescription: 2-Pin, Axial Lead, Diameter 3.49 mm; Supplier 1: Digi-Key; Supplier Part Number 1: P6KE47AGOS-ND; Supplier 2: Farnell; Supplier Part Number 2: 1278016; Supplier 3: Newark; Supplier Part Number 3: 42K2533; Supplier 4: Mouser; Supplier Part Number 4: 863-P6KE47AG; Packing: Bulk Box; RoHS: Pb-Free; Mounting Technology: Through Hole; ComponentLink1Description: Manufacturer URL; ComponentLink1URL: http://www.onsemi.com/; ComponentLink2Description: Datasheet; ComponentLink2URL: http://www.onsemi.com/pub_link/Collateral/P6KE6.8A-D.PDF; ComponentLink3Description: Package Specification; ComponentLink3URL: http://www.onsemi.cn/pub_link/Collateral/017AA.PDF
footprint ONSC-SURMETIC40-2-017AA-01 (AXIAL, 2-Leads, Diameter 3.49mm)
pins: 1 K, 2 A

## P6KE47ARLG
designator D?
600 W Peak Power Transient Voltage Suppressor, 2-Pin Surmetic(TM) 40, Pb-Free, Tape and Reel; Manufacturer: On Semiconductor; PartNumber: P6KE47ARLG; Direction: Unidirectional; IR Max (uA): 5; PPK Max (W): 600; V(BR) Typ (V): 47.05; DatasheetVersion: Rev. 10; PackageVersion: Rev. O, 09/2005; PackageReference: SURMETIC40-2-017AA-01; PackageDescription: 2-Pin, Axial Lead, Diameter 3.49 mm; Supplier 1: Digi-Key; Supplier Part Number 1: P6KE47ARLG-ND; Supplier 2: Mouser; Supplier Part Number 2: 863-P6KE47ARLG; Packing: Tape and Reel; RoHS: Pb-Free; Mounting Technology: Through Hole; ComponentLink1Description: Manufacturer URL; ComponentLink1URL: http://www.onsemi.com/; ComponentLink2Description: Datasheet; ComponentLink2URL: http://www.onsemi.com/pub_link/Collateral/P6KE6.8A-D.PDF; ComponentLink3Description: Package Specification; ComponentLink3URL: http://www.onsemi.cn/pub_link/Collateral/017AA.PDF
footprint ONSC-SURMETIC40-2-017AA-01 (AXIAL, 2-Leads, Diameter 3.49mm)
pins: 1 K, 2 A

## P6KE51AG
designator D?
600 W Peak Power Transient Voltage Suppressor, 2-Pin Surmetic(TM) 40, Pb-Free, Bulk Box; Manufacturer: On Semiconductor; PartNumber: P6KE51AG; Direction: Unidirectional; IR Max (uA): 5; PPK Max (W): 600; V(BR) Typ (V): 51.05; DatasheetVersion: Rev. 10; PackageVersion: Rev. O, 09/2005; PackageReference: SURMETIC40-2-017AA-01; PackageDescription: 2-Pin, Axial Lead, Diameter 3.49 mm; Supplier 1: Digi-Key; Supplier Part Number 1: P6KE51AGOS-ND; Supplier 2: Farnell; Supplier Part Number 2: 1147732; Supplier 3: Newark; Supplier Part Number 3: 42K2534; Supplier 4: Mouser; Supplier Part Number 4: 863-P6KE51AG; Packing: Bulk Box; RoHS: Pb-Free; Mounting Technology: Through Hole; ComponentLink1Description: Manufacturer URL; ComponentLink1URL: http://www.onsemi.com/; ComponentLink2Description: Datasheet; ComponentLink2URL: http://www.onsemi.com/pub_link/Collateral/P6KE6.8A-D.PDF; ComponentLink3Description: Package Specification; ComponentLink3URL: http://www.onsemi.cn/pub_link/Collateral/017AA.PDF
footprint ONSC-SURMETIC40-2-017AA-01 (AXIAL, 2-Leads, Diameter 3.49mm)
pins: 1 K, 2 A

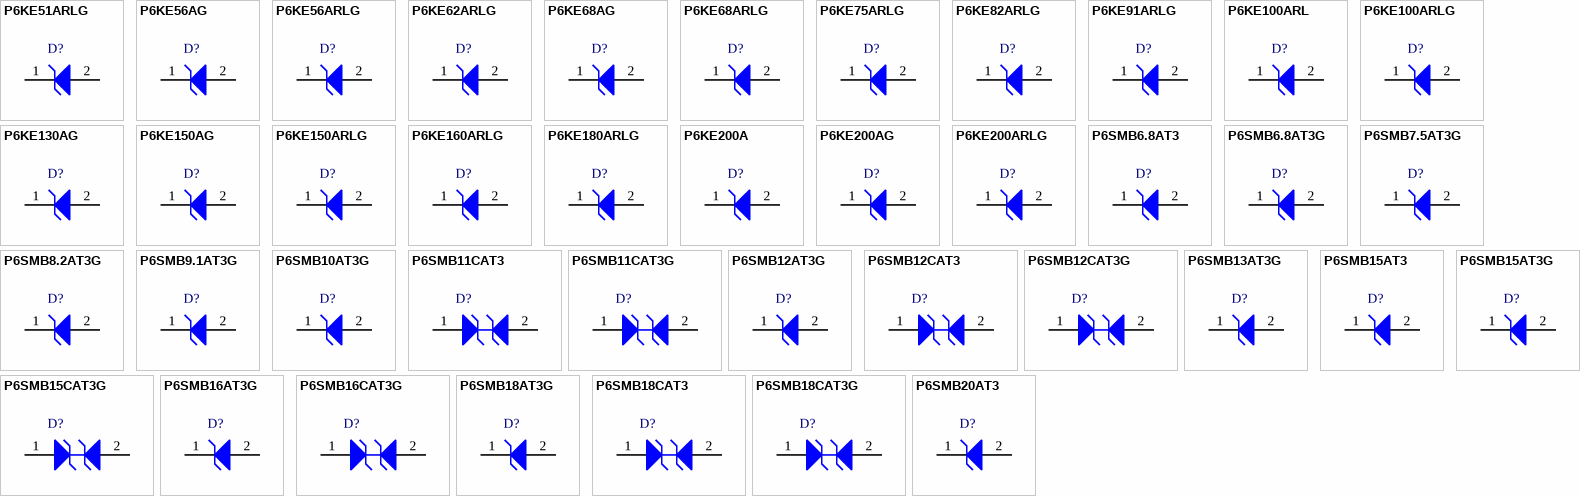
[diagram p11: symbols P6KE51ARLG to P6SMB20AT3]

## P6KE51ARLG
designator D?
600 W Peak Power Transient Voltage Suppressor, 2-Pin Surmetic(TM) 40, Pb-Free, Tape and Reel; Manufacturer: On Semiconductor; PartNumber: P6KE51ARLG; Direction: Unidirectional; IR Max (uA): 5; PPK Max (W): 600; V(BR) Typ (V): 51.05; DatasheetVersion: Rev. 10; PackageVersion: Rev. O, 09/2005; PackageReference: SURMETIC40-2-017AA-01; PackageDescription: 2-Pin, Axial Lead, Diameter 3.49 mm; Supplier 1: Digi-Key; Supplier Part Number 1: P6KE51ARLG-ND; Supplier 2: Mouser; Supplier Part Number 2: 863-P6KE51ARLG; Packing: Tape and Reel; RoHS: Pb-Free; Mounting Technology: Through Hole; ComponentLink1Description: Manufacturer URL; ComponentLink1URL: http://www.onsemi.com/; ComponentLink2Description: Datasheet; ComponentLink2URL: http://www.onsemi.com/pub_link/Collateral/P6KE6.8A-D.PDF; ComponentLink3Description: Package Specification; ComponentLink3URL: http://www.onsemi.cn/pub_link/Collateral/017AA.PDF
footprint ONSC-SURMETIC40-2-017AA-01 (AXIAL, 2-Leads, Diameter 3.49mm)
pins: 1 K, 2 A

## P6KE56AG
designator D?
600 W Peak Power Transient Voltage Suppressor, 2-Pin Surmetic(TM) 40, Pb-Free, Bulk Box; Manufacturer: On Semiconductor; PartNumber: P6KE56AG; Direction: Unidirectional; IR Max (uA): 5; PPK Max (W): 600; V(BR) Typ (V): 56; DatasheetVersion: Rev. 10; PackageVersion: Rev. O, 09/2005; PackageReference: SURMETIC40-2-017AA-01; PackageDescription: 2-Pin, Axial Lead, Diameter 3.49 mm; Supplier 1: Digi-Key; Supplier Part Number 1: P6KE56AG-ND; Supplier 2: Newark; Supplier Part Number 2: 42K2535; Supplier 3: Mouser; Supplier Part Number 3: 863-P6KE56AG; Packing: Bulk Box; RoHS: Pb-Free; Mounting Technology: Through Hole; ComponentLink1Description: Manufacturer URL; ComponentLink1URL: http://www.onsemi.com/; ComponentLink2Description: Datasheet; ComponentLink2URL: http://www.onsemi.com/pub_link/Collateral/P6KE6.8A-D.PDF; ComponentLink3Description: Package Specification; ComponentLink3URL: http://www.onsemi.cn/pub_link/Collateral/017AA.PDF
footprint ONSC-SURMETIC40-2-017AA-01 (AXIAL, 2-Leads, Diameter 3.49mm)
pins: 1 K, 2 A

## P6KE56ARLG
designator D?
600 W Peak Power Transient Voltage Suppressor, 2-Pin Surmetic(TM) 40, Pb-Free, Tape and Reel; Manufacturer: On Semiconductor; PartNumber: P6KE56ARLG; Direction: Unidirectional; IR Max (uA): 5; PPK Max (W): 600; V(BR) Typ (V): 56; DatasheetVersion: Rev. 10; PackageVersion: Rev. O, 09/2005; PackageReference: SURMETIC40-2-017AA-01; PackageDescription: 2-Pin, Axial Lead, Diameter 3.49 mm; Supplier 1: Digi-Key; Supplier Part Number 1: P6KE56ARLG-ND; Supplier 2: Mouser; Supplier Part Number 2: 863-P6KE56ARLG; Packing: Tape and Reel; RoHS: Pb-Free; Mounting Technology: Through Hole; ComponentLink1Description: Manufacturer URL; ComponentLink1URL: http://www.onsemi.com/; ComponentLink2Description: Datasheet; ComponentLink2URL: http://www.onsemi.com/pub_link/Collateral/P6KE6.8A-D.PDF; ComponentLink3Description: Package Specification; ComponentLink3URL: http://www.onsemi.cn/pub_link/Collateral/017AA.PDF
footprint ONSC-SURMETIC40-2-017AA-01 (AXIAL, 2-Leads, Diameter 3.49mm)
pins: 1 K, 2 A

## P6KE62ARLG
designator D?
600 W Peak Power Transient Voltage Suppressor, 2-Pin Surmetic(TM) 40, Pb-Free, Tape and Reel; Manufacturer: On Semiconductor; PartNumber: P6KE62ARLG; Direction: Unidirectional; IR Max (uA): 5; PPK Max (W): 600; V(BR) Typ (V): 62; DatasheetVersion: Rev. 10; PackageVersion: Rev. O, 09/2005; PackageReference: SURMETIC40-2-017AA-01; PackageDescription: 2-Pin, Axial Lead, Diameter 3.49 mm; Supplier 1: Digi-Key; Supplier Part Number 1: P6KE62ARLGOSTR-ND; Supplier 2: Digi-Key; Supplier Part Number 2: P6KE62ARLGOSCT-ND; Supplier 3: Mouser; Supplier Part Number 3: 863-P6KE62ARLG; Packing: Tape and Reel; RoHS: Pb-Free; Mounting Technology: Through Hole; ComponentLink1Description: Manufacturer URL; ComponentLink1URL: http://www.onsemi.com/; ComponentLink2Description: Datasheet; ComponentLink2URL: http://www.onsemi.com/pub_link/Collateral/P6KE6.8A-D.PDF; ComponentLink3Description: Package Specification; ComponentLink3URL: http://www.onsemi.cn/pub_link/Collateral/017AA.PDF
footprint ONSC-SURMETIC40-2-017AA-01 (AXIAL, 2-Leads, Diameter 3.49mm)
pins: 1 K, 2 A

## P6KE68AG
designator D?
600 W Peak Power Transient Voltage Suppressor, 2-Pin Surmetic(TM) 40, Pb-Free, Bulk Box; Manufacturer: On Semiconductor; PartNumber: P6KE68AG; Direction: Unidirectional; IR Max (uA): 5; PPK Max (W): 600; V(BR) Typ (V): 68; DatasheetVersion: Rev. 10; PackageVersion: Rev. O, 09/2005; PackageReference: SURMETIC40-2-017AA-01; PackageDescription: 2-Pin, Axial Lead, Diameter 3.49 mm; Supplier 1: Digi-Key; Supplier Part Number 1: P6KE68AG-ND; Supplier 2: Newark; Supplier Part Number 2: 42K2539; Supplier 3: Mouser; Supplier Part Number 3: 863-P6KE68AG; Packing: Bulk Box; RoHS: Pb-Free; Mounting Technology: Through Hole; ComponentLink1Description: Manufacturer URL; ComponentLink1URL: http://www.onsemi.com/; ComponentLink2Description: Datasheet; ComponentLink2URL: http://www.onsemi.com/pub_link/Collateral/P6KE6.8A-D.PDF; ComponentLink3Description: Package Specification; ComponentLink3URL: http://www.onsemi.cn/pub_link/Collateral/017AA.PDF
footprint ONSC-SURMETIC40-2-017AA-01 (AXIAL, 2-Leads, Diameter 3.49mm)
pins: 1 K, 2 A

## P6KE68ARLG
designator D?
600 W Peak Power Transient Voltage Suppressor, 2-Pin Surmetic(TM) 40, Pb-Free, Tape and Reel; Manufacturer: On Semiconductor; PartNumber: P6KE68ARLG; Direction: Unidirectional; IR Max (uA): 5; PPK Max (W): 600; V(BR) Typ (V): 68; DatasheetVersion: Rev. 10; PackageVersion: Rev. O, 09/2005; PackageReference: SURMETIC40-2-017AA-01; PackageDescription: 2-Pin, Axial Lead, Diameter 3.49 mm; Supplier 1: Digi-Key; Supplier Part Number 1: P6KE68ARLG-ND; Supplier 2: Mouser; Supplier Part Number 2: 863-P6KE68ARLG; Packing: Tape and Reel; RoHS: Pb-Free; Mounting Technology: Through Hole; ComponentLink1Description: Manufacturer URL; ComponentLink1URL: http://www.onsemi.com/; ComponentLink2Description: Datasheet; ComponentLink2URL: http://www.onsemi.com/pub_link/Collateral/P6KE6.8A-D.PDF; ComponentLink3Description: Package Specification; ComponentLink3URL: http://www.onsemi.cn/pub_link/Collateral/017AA.PDF
footprint ONSC-SURMETIC40-2-017AA-01 (AXIAL, 2-Leads, Diameter 3.49mm)
pins: 1 K, 2 A